# Altium footprint library GFZJ 整版.PcbLib: 43 footprints (part 2 of 3)
Each footprint in its own frame and in the unit in brackets; x right, y up, seen from the top. Pads: shape width x height; smd on the part's side, far side on the other; paste and mask are expansions set on the pad; w line width, h text height; cw(c..) or ccw(c..) is an arc to the next point about the centre after c.
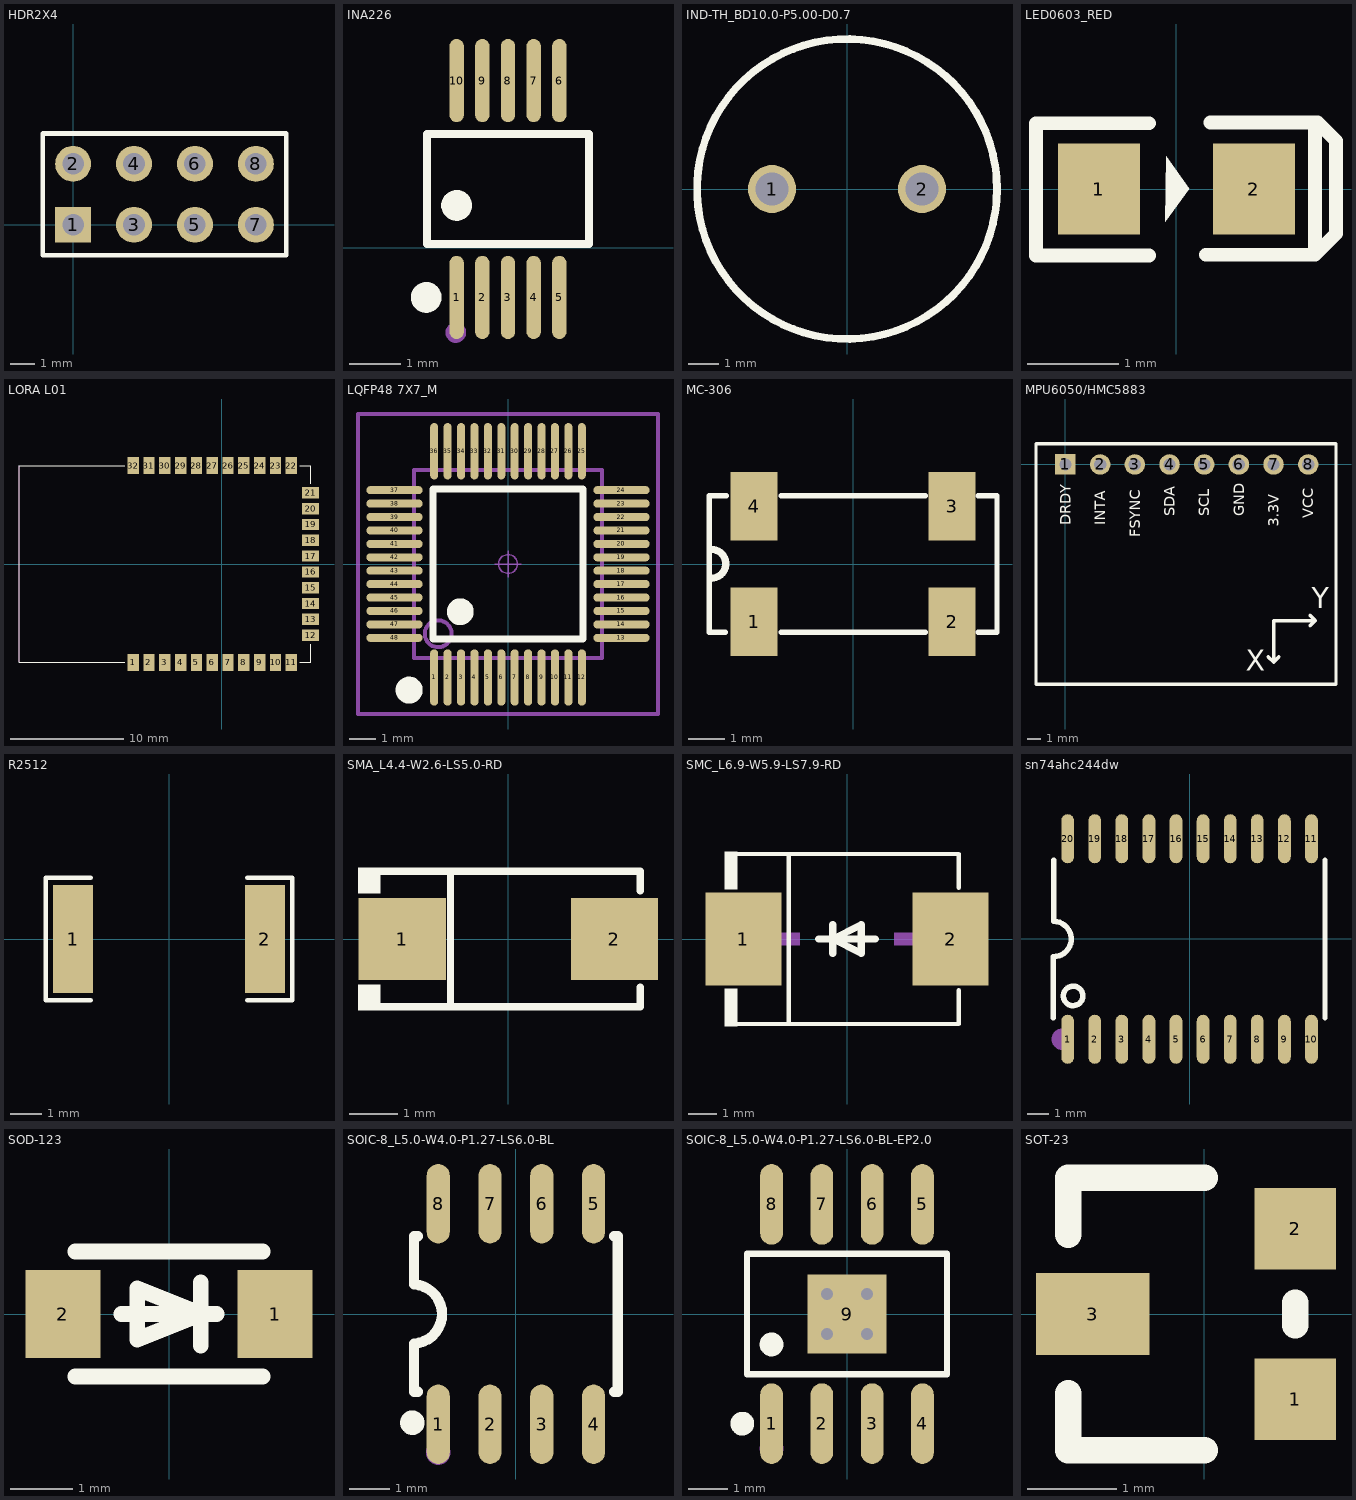
[diagram p1: the footprints below, top view; thin cyan lines are the x and y axes]

## HDR2X4 [mm] "Connector; Header; 4x2 Position"
height 12.93
pads (8):
  rect 1.5x1.5 hole 0.9: 1(0,0)
  round 1.5 hole 0.9: 2(0,2.54) 3(2.54,0) 4(2.54,2.54) 5(5.08,0) 6(5.08,2.54) 7(7.62,0) 8(7.62,2.54)
Top Overlay:
  lines w0.2: -1.27,-1.27 -1.27,3.81 8.89,3.81 8.89,-1.27 -1.27,-1.27

## INA226 [mm]
height 12.93
pads (10):
  oval 0.28x1.62 smd: 1(-7.005,-0.968) 2(-6.505,-0.968) 3(-6.005,-0.968) 4(-5.505,-0.968) 5(-5.005,-0.968) 6(-5.005,3.252) 7(-5.505,3.252) 8(-6.005,3.252) 9(-6.505,3.252) 10(-7.005,3.252)
Top Overlay:
  circle w0.3: c-7.005,0.823 r0.15
  circle w0.3: c-7.597,-0.968 r0.15
  lines w0.152: -7.581,0.071 -7.581,2.213 -4.428,2.213 -4.428,0.071 -7.581,0.071
Mechanical 15:
  circle w0.2: c-7.021,-1.652 r0.1

## IND-TH_BD10.0-P5.00-D0.7 [mm] "100uh 电感"
height 12.93
pads (2):
  round 1.6 hole 1.1: 1(-2.5,0) 2(2.5,0)
Top Overlay:
  circle w0.254: c0,0 r5

## LED0603_RED [mm]
height 12.93
pads (2):
  rect 0.9x1 smd: 1(-0.85,0) 2(0.85,0)
Top Overlay:
  region: -0.11,0.36 -0.12,-0.36 0.14,0
  lines w0.15: -0.3,-0.73 -1.54,-0.73 -1.54,0.72 -0.3,0.72 ; 0.32,-0.72 1.52,-0.72 ; 0.37,0.73 1.52,0.73 ; 1.52,-0.72 1.72,-0.52 1.75,-0.49 1.75,0.53 1.55,0.73 1.52,0.73 ; 1.52,-0.72 1.52,0.73

## LORA L01 [mm] "LORA L模组"
height 12.93
pads (32):
  rect 1x1.5 smd: 1(-7.85,-8.7) 2(-6.45,-8.7) 3(-5.05,-8.7) 4(-3.65,-8.7) 5(-2.25,-8.7) 6(-0.85,-8.7) 7(0.55,-8.7) 8(1.95,-8.7) 9(3.35,-8.7) 10(4.75,-8.7) 11(6.15,-8.7) 22(6.15,8.7) 23(4.75,8.7) 24(3.35,8.7) 25(1.95,8.7) 26(0.55,8.7) 27(-0.85,8.7) 28(-2.25,8.7) 29(-3.65,8.7) 30(-5.05,8.7) 31(-6.45,8.7) 32(-7.85,8.7)
  rect 1.5x1 smd: 12(7.85,-6.3) 13(7.85,-4.9) 14(7.85,-3.5) 15(7.85,-2.1) 16(7.85,-0.7) 17(7.85,0.7) 18(7.85,2.1) 19(7.85,3.5) 20(7.85,4.9) 21(7.85,6.3)
Top Overlay:
  lines w0.1: -17.956,-8.7 -8.609,-8.7 ; -17.956,8.7 -8.61,8.7 ; 6.885,-8.7 7.85,-8.7 7.85,-7.1 ; 6.886,8.7 7.85,8.7 7.85,7.099
Top Overlay keep-out:
  lines w0.1: -17.956,8.7 -17.956,-8.7 ; -17.956,-8.7 -17.956,-8.7

## LQFP48 7X7_M [mm] "48脚，体宽7x7mm，脚距0.5mm      淘宝ID:黄晶宝石"
height 1.6
pads (48):
  oval 0.3x2.1 smd: 1(-2.75,-4.227) 2(-2.25,-4.227) 3(-1.75,-4.227) 4(-1.25,-4.227) 5(-0.75,-4.227) 6(-0.25,-4.227) 7(0.25,-4.227) 8(0.75,-4.227) 9(1.25,-4.227) 10(1.75,-4.227) 11(2.25,-4.227) 12(2.75,-4.227) 25(2.75,4.202) 26(2.25,4.202) 27(1.75,4.202) 28(1.25,4.202) 29(0.75,4.202) 30(0.25,4.202) 31(-0.25,4.202) 32(-0.75,4.202) 33(-1.25,4.202) 34(-1.75,4.202) 35(-2.25,4.202) 36(-2.75,4.202)
  oval 2.1x0.3 smd: 13(4.227,-2.75) 14(4.227,-2.25) 15(4.227,-1.75) 16(4.227,-1.25) 17(4.227,-0.75) 18(4.227,-0.25) 19(4.227,0.25) 20(4.227,0.75) 21(4.227,1.25) 22(4.227,1.75) 23(4.227,2.25) 24(4.227,2.75) 37(-4.227,2.75) 38(-4.227,2.25) 39(-4.227,1.75) 40(-4.227,1.25) 41(-4.227,0.75) 42(-4.227,0.25) 43(-4.227,-0.25) 44(-4.227,-0.75) 45(-4.227,-1.25) 46(-4.227,-1.75) 47(-4.227,-2.25) 48(-4.227,-2.75)
Top Overlay:
  circle w0.5: c-1.778,-1.778 r0.25
  circle w0.508: c-3.683,-4.699 r0.25
  lines w0.254: -2.794,-2.794 2.794,-2.794 2.794,2.794 -2.794,2.794 -2.794,-2.794
Mechanical 13:
  circle w0.15: c-2.6,-2.6 r0.5
  lines w0.15: -3.5,-3.5 -3.5,3.5 3.5,3.5 3.5,-3.5 -3.5,-3.5
Mechanical 15:
  circle w0.05: c0,0 r0.35
  lines w0.05: -0.5,0 0.5,0 ; 0,-0.5 0,0.5
  lines w0.15: -5.588,-5.588 -5.588,5.588 5.588,5.588 5.588,-5.588 -5.588,-5.588
3D body "LQFP48-7x7.STEP": height 1.45, standoff 0, extent -4.503,-4.503 4.503,4.503

## MC-306 [mm]
height 1.6
pads (4):
  rect 1.3x1.9 smd: 1(-2.75,-1.6) 2(2.75,-1.6) 3(2.75,1.6) 4(-2.75,1.6)
Top Overlay:
  lines w0.152: -3.556,-1.9 -4,-1.9 -4,1.9 -3.531,1.9 ; -2,-1.9 2,-1.9 ; -2,1.9 2,1.9 ; 3.48,-1.9 4,-1.9 4,1.9 3.48,1.9
  lines w0.2: -3.937,-0.394 ccw(c-3.937,0.006) -3.937,0.406

## MPU6050/HMC5883 [mm]
pads (8):
  rect 1.5x1.5 hole 0.9: 1(0,0)
  round 1.5 hole 0.9: 2(2.54,0) 3(5.08,0) 4(7.62,0) 5(10.16,0) 6(12.7,0) 7(15.24,0) 8(17.78,0)
Top Overlay:
  lines w0.254: 14.859,-14.097 15.24,-14.478 ; 15.621,-14.097 15.24,-14.478 ; 17.907,-11.811 18.288,-11.43 ; 17.907,-11.049 18.288,-11.43 ; 19.812,-16.103 -2.159,-16.103 -2.159,1.524 19.812,1.524 19.812,-16.002 ; 15.24,-14.478 15.24,-11.43 18.288,-11.43
  text "DRDY" at 0.381,-4.445 h0.76
  text "INTA" at 2.921,-4.445 h0.76
  text "FSYNC" at 5.461,-5.334 h0.76
  text "SDA" at 8.001,-3.81 h0.76
  text "VCC" at 18.161,-3.937 h0.76
  text "3.3V" at 15.621,-4.572 h0.76
  text "GND" at 13.081,-3.81 h0.76
  text "SCL" at 10.541,-3.81 h0.76
  text "X" at 13.208,-15.113 h1.52
  text "Y" at 18.034,-10.541 h1.52

## R2512 [mm] "康铜丝"
height 12.93
pads (2):
  rect 1.283x3.456 smd: 1(-3.066,0) 2(3.066,0)
Top Overlay:
  lines w0.152: -2.501,-1.957 -3.936,-1.957 -3.936,1.957 -2.501,1.957 ; 2.501,-1.957 3.936,-1.957 3.936,1.957 2.501,1.957
Top Paste:
  region: -2.425,-1.628 -2.425,-0.688 -2.525,-0.588 -2.761,-0.588 -2.861,-0.488 -2.861,0.488 -2.761,0.588 -2.525,0.588 -2.425,0.688 -2.425,1.628 -2.525,1.728 -3.608,1.728 -3.708,1.628 -3.708,-1.628 -3.608,-1.728 -2.525,-1.728
  region: 2.425,-1.628 2.425,-0.688 2.525,-0.588 2.761,-0.588 2.861,-0.488 2.861,0.488 2.761,0.588 2.525,0.588 2.425,0.688 2.425,1.628 2.525,1.728 3.608,1.728 3.708,1.628 3.708,-1.628 3.608,-1.728 2.525,-1.728

## SMA_L4.4-W2.6-LS5.0-RD [mm] "SMA 二极管"
height 12.93
pads (2):
  rect 1.8x1.7 smd: 1(-2.192,0) 2(2.192,0)
Top Overlay:
  region: -2.65,-1.477 -2.65,-0.949 -3.107,-0.949 -3.107,-1.477
  region: -2.65,1.477 -2.65,0.949 -3.107,0.949 -3.107,1.477
  lines w0.152: -2.726,-1.401 2.726,-1.401 2.726,-1 ; -2.726,1.401 2.726,1.401 2.726,1 ; -1.197,-1.401 -1.197,1.401
Mechanical 15:
  region: 2.153,-0.663 2.153,0.663 1.954,0.663 1.954,-0.663
  region: 2.451,-0.099 2.451,0.099 1.656,0.099 1.656,-0.099
  region: -2.451,-0.099 -2.451,0.099 -1.656,0.099 -1.656,-0.099

## SMC_L6.9-W5.9-LS7.9-RD [mm] "B540C 瞬态抑制二极管"
height 12.93
pads (2):
  rect 2.7x3.3 smd: 1(-3.686,0) 2(3.686,0)
Top Overlay:
  region: -3.9,3.102 -3.9,1.772 -4.357,1.772 -4.357,3.102
  region: -3.9,-3.102 -3.9,-1.772 -4.357,-1.772 -4.357,-3.102
  lines w0.152: -3.976,-3.026 3.976,-3.026 3.976,-1.823 ; -3.976,3.026 3.976,3.026 3.976,1.823 ; -2.069,-3.026 -2.069,3.026
  lines w0.254: -1.016,0 1.016,0 ; -0.508,0.508 -0.508,-0.508 -0.508,0 ; -0.508,0 0.508,-0.508 0.508,0.508 -0.508,0
Mechanical 15:
  region: -3.457,-0.221 -3.457,0.221 -1.687,0.221 -1.687,-0.221
  region: 3.457,-0.221 3.457,0.221 1.687,0.221 1.687,-0.221
  region: 2.794,-1.475 2.794,1.475 2.351,1.475 2.351,-1.475

## sn74ahc244dw [mm]
height 12.93
pads (20):
  oval 0.6x2.3 smd: 1(-5.715,-4.7) 2(-4.445,-4.7) 3(-3.175,-4.7) 4(-1.905,-4.7) 5(-0.635,-4.7) 6(0.635,-4.7) 7(1.905,-4.7) 8(3.175,-4.7) 9(4.445,-4.7) 10(5.715,-4.7) 11(5.715,4.7) 12(4.445,4.7) 13(3.175,4.7) 14(1.905,4.7) 15(0.635,4.7) 16(-0.635,4.7) 17(-1.905,4.7) 18(-3.175,4.7) 19(-4.445,4.7) 20(-5.715,4.7)
Top Overlay:
  circle w0.254: c-5.461,-2.667 r0.458
  lines w0.254: -6.387,-3.683 -6.387,-0.826 ccw(c-6.374,0) -6.362,0.825 -6.362,3.683 ; 6.35,-3.683 6.35,-3.096 6.35,3.048 6.35,3.683
Mechanical 15:
  circle w0.5: c-5.969,-4.699 r0.25

## SOD-123 [mm]
height 12.93
pads (2):
  rect 1.2x1.4 smd: 1(1.7,0) 2(-1.7,0)
Top Overlay:
  lines w0.254: -1.5,-1 1.5,-1 ; -1.5,1 1.5,1 ; -0.762,0 0.762,0 ; 0.508,-0.508 0.508,0.508 ; -0.508,-0.406 -0.508,0.406 0.508,0 -0.508,-0.406

## SOIC-8_L5.0-W4.0-P1.27-LS6.0-BL [mil]
height 509.06
pads (8):
  oval 22.38x76.78 smd: 1(-75,-106.5) 2(-25,-106.5) 3(25,-106.5) 4(75,-106.5) 5(75,106.5) 6(25,106.5) 7(-25,106.5) 8(-75,106.5)
Top Overlay:
  circle w11.81: c-100,-105 r5.91
  lines w10: -98.43,-28.61 ccw(c-99.99,0) -98.23,28.59 ; -98.42,-28.61 -98.42,-59.05 -98.42,-75 -94.83,-75 ; -98.42,28.59 -98.42,59.05 -98.42,75 -94.83,75 ; 94.83,-75 98.42,-75 98.42,-59.05 98.42,59.05 98.42,75 94.83,75
Mechanical 15:
  circle w11.81: c-75,-133.86 r5.91

## SOIC-8_L5.0-W4.0-P1.27-LS6.0-BL-EP2.0 [mm] "XL4301"
height 12.93
pads (9):
  oval 0.574x2.038 smd: 1(-1.905,-2.769) 2(-0.635,-2.769) 3(0.635,-2.769) 4(1.905,-2.769) 5(1.905,2.769) 6(0.635,2.769) 7(-0.635,2.769) 8(-1.905,2.769)
  rect 2x2 smd: 9(0,0)
via 0.5,-0.5 diameter 0.61 hole 0.305
via -0.5,-0.5 diameter 0.61 hole 0.305
via -0.5,0.5 diameter 0.61 hole 0.305
via 0.5,0.5 diameter 0.61 hole 0.305
Top Overlay:
  circle w0.3: c-2.644,-2.769 r0.15
  circle w0.3: c-1.905,-0.769 r0.15
  lines w0.152: -2.526,-1.521 2.526,-1.521 2.526,1.521 -2.526,1.521 -2.526,-1.521
Mechanical 15:
  circle w0.3: c-1.905,-3.4 r0.15

## SOT-23 [mil]
height 509.06
pads (3):
  rect 35.98x35.98 smd: 1(40,-37.52) 2(40,37.52)
  rect 50x35.98 smd: 3(-49.2,0)
Top Overlay:
  lines w11.81: -60,-35 -60,-60 0,-60 ; -60,35 -60,60 0,60 ; 40,-5 40,5